# EAGLE library part 3220-10-0200-00 (library mbed-HDK-Connector)
10 Positions Header Connector 0.050" (1.27mm) Through Hole, Right Angle Gold
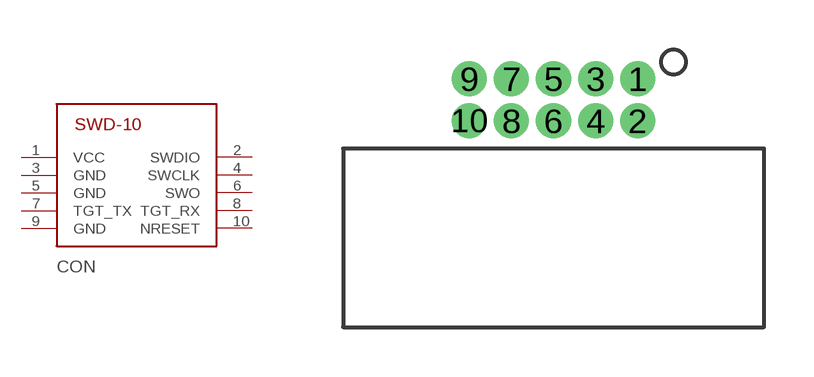
[diagram p14: symbol with the pads of 3220-10-0200-00; footprint 3220-10-0200-00]

Designator prefix CON

## 3220-10-0200-00 (MF: CNC Tech; MFN: 3220-10-0200-00; OC-DIGIKEY: 1175-1628-ND)  [3220-10-0200-00]
1  VCC
2  SWDIO
3  GND
4  SWCLK
5  GND
6  SWO
7  TGT_TX
8  TGT_RX
9  GND
10  NRESET

## Footprint 3220-10-0200-00 (pad centres in mm)
drill 0.55 pad 0.9: 1 5.08,0; 2 5.08,-1.27; 3 3.81,0; 4 3.81,-1.27; 5 2.54,0; 6 2.54,-1.27; 7 1.27,0; 8 1.27,-1.27; 9 0,0; 10 0,-1.27